# EAGLE library part RT1720 (library RT1720)
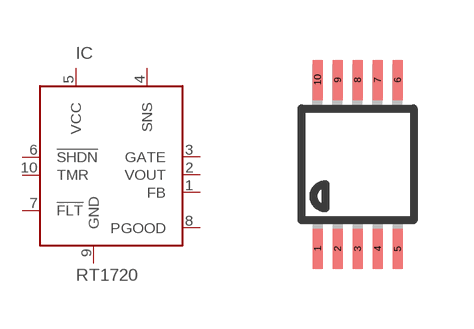
[diagram p0: symbol with the pads of MSOP10; footprint MSOP10]

Designator prefix IC

## RT1720  [MSOP10]
1  FB  in
2  VOUT  in
3  GATE  out
4  SNS  in
5  VCC  pwr
6  !SHDN  in
7  !FLT  pwr
8  PGOOD
9  GND  pwr
10  TMR  in

## Footprint MSOP10 (pad centres in mm)
10-Lead Mini Small Outline Package [MSOP] (RM-10) Source: http://www.analog.com/UploadedFiles/Data_Sheets/35641221898805SSM2167_b.pdf COMPLIANT TO JEDEC STANDARDS MO-187BA
smd 0.25 x 1: 1 -1,-2.113; 2 -0.5,-2.113; 3 0,-2.113; 4 0.5,-2.113; 5 1,-2.113; 6 1,2.113; 7 0.5,2.113; 8 0,2.113; 9 -0.5,2.113; 10 -1,2.113